# Altium schematic symbol library MA730GQ-Z.SchLib: 1 symbol
Pins are listed as number, name and electrical type; pins without a type are passive.

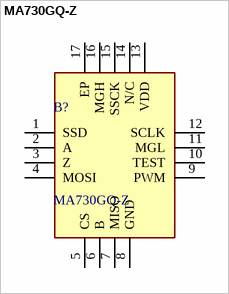
[diagram p0: symbol MA730GQ-Z]

## MA730GQ-Z
designator B?
Board Mount Hall Effect / Magnetic Sensors 14-bit, digital, contactless angle sensor with ABZ incremental and PWM output; Manufacturer_Name: Monolithic Power Systems (MPS); Geometry.Height: 1mm; Mouser Part Number: 946-MA730GQ-Z; Mouser Price/Stock: https://www.mouser.co.uk/ProductDetail/Monolithic-Power-Systems-MPS/MA730GQ-Z?qs=YCa%2FAAYMW01z3klrRj76PA%3D%3D; Manufacturer_Part_Number: MA730GQ-Z; Datasheet Link: https://www.monolithicpower.com/pub/media/document/m/a/ma730_r1.01.pdf
footprint QFN50P300X300X100-17N-D
pins: 1 SSD, 2 A, 3 Z, 4 MOSI, 5 CS, 6 B, 7 MISO, 8 GND, 9 PWM, 10 TEST, 11 MGL, 12 SCLK, 13 VDD, 14 N/C, 15 SSCK, 16 MGH, 17 EP